# Altium footprint library lib.PcbLib: 36 footprints (part 1 of 3)
Each footprint in its own frame and in the unit in brackets; x right, y up, seen from the top. Pads: shape width x height; smd on the part's side, far side on the other; paste and mask are expansions set on the pad; w line width, h text height; cw(c..) or ccw(c..) is an arc to the next point about the centre after c.
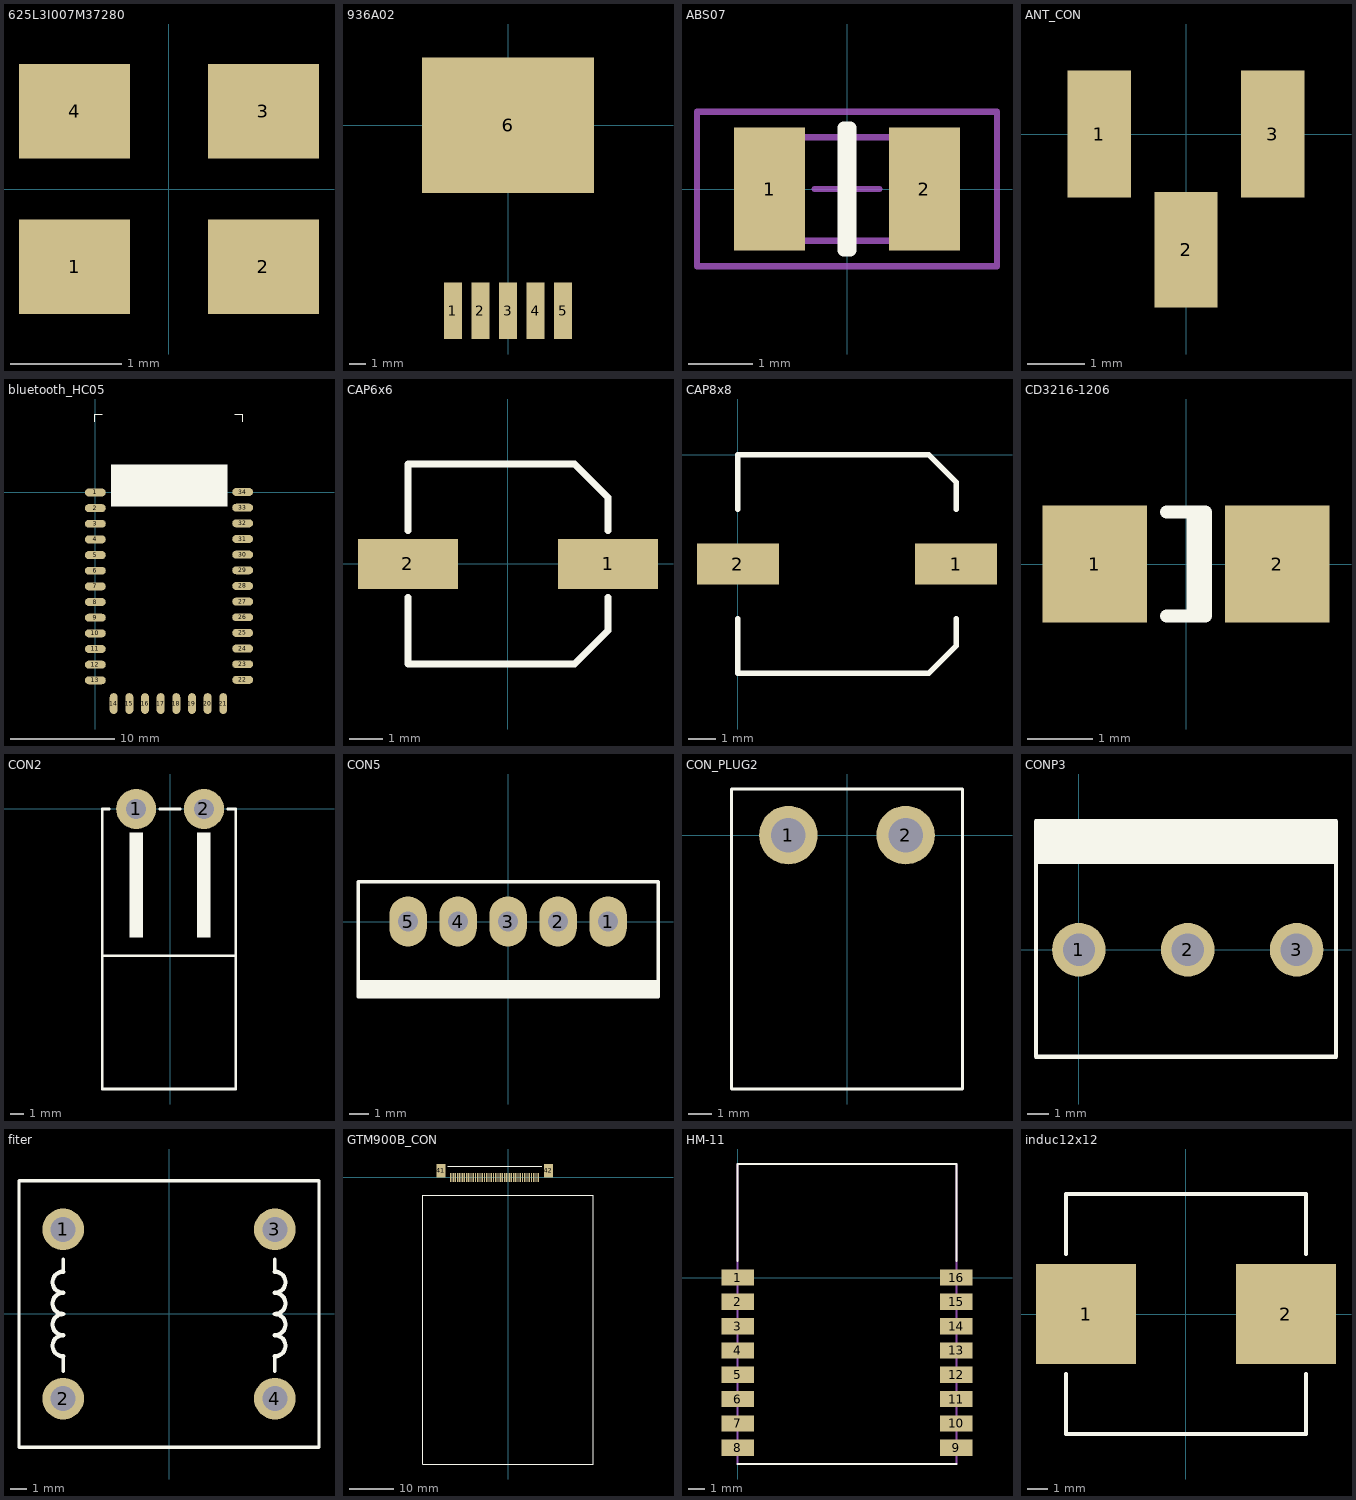
[diagram p0: the footprints below, top view; thin cyan lines are the x and y axes]

## 625L3I007M37280 [mm] "Crystal, SM; 4 Leads; Body 1 x 2.5 x 2 mm (LxWxH)"
height 2.5
pads (4):
  rect 1x0.85 smd: 1(-0.85,-0.7) 2(0.85,-0.7) 3(0.85,0.7) 4(-0.85,0.7)

## 936A02 [mm]
pads (6):
  rect 1.1x3.5 smd: 1(-3.404,-11.482) 2(-1.702,-11.482) 3(0,-11.482) 4(1.702,-11.482) 5(3.404,-11.482)
  rect 10.66x8.38 smd: 6(0,0)

## ABS07 [mm] "MELF Resistor, 2-Leads, Body 3.2x1.5mm, IPC Medium Density"
height 1.6
pads (2):
  rect 1.1x1.9 smd: 1(-1.2,0) 2(1.2,0)
Top Overlay:
  lines w0.2: -0.05,-0.95 0.05,-0.95 0.05,0.95 -0.05,0.95 -0.05,-0.95
Mechanical 13:
  lines w0.1: -1.65,-0.8 -1.65,0.8 1.65,0.8 1.65,-0.8 -1.65,-0.8
Mechanical 15:
  lines w0.1: -0.5,0 0.5,0 ; 0,-0.5 0,0.5 ; -2.325,-1.2 -2.325,1.2 2.325,1.2 2.325,-1.2 -2.325,-1.2
3D body: height 1.6, standoff 0, extent -1.65,-0.8 1.65,0.8

## ANT_CON [mm]
pads (3):
  rect 1.1x2.2 smd: 1(-1.5,0) 3(1.5,0)
  rect 1.1x2 smd: 2(0,-2)

## bluetooth_HC05 [mm]
pads (34):
  oval 2x0.76 smd: 1(0.01,0) 2(0.01,-1.5) 3(0.01,-3) 4(0.01,-4.5) 5(0.01,-6) 6(0.01,-7.5) 7(0.01,-9) 8(0.01,-10.5) 9(0.01,-12) 10(0.01,-13.5) 11(0.01,-15) 12(0.01,-16.5) 13(0.01,-18) 22(14.13,-17.96) 23(14.13,-16.46) 24(14.13,-14.96) 25(14.13,-13.46) 26(14.13,-11.96) 27(14.13,-10.46) 28(14.13,-8.96) 29(14.13,-7.46) 30(14.13,-5.96) 31(14.13,-4.46) 32(14.13,-2.96) 33(14.13,-1.46) 34(14.13,0.04)
  oval 0.76x2 smd: 14(1.77,-20.23) 15(3.27,-20.23) 16(4.77,-20.23) 17(6.27,-20.23) 18(7.77,-20.23) 19(9.27,-20.23) 20(10.77,-20.23) 21(12.27,-20.23)
Top Overlay:
  region: 12.689,-1.33 12.689,2.67 1.489,2.67 1.489,-1.33
  lines w0.1: -0.06,6.77 -0.06,7.52 0.69,7.52 ; 13.39,7.52 14.14,7.52 14.14,6.77

## CAP6x6 [mm]
pads (2):
  rect 3x1.5 smd: 1(3,0) 2(-3,0)
Top Overlay:
  lines w0.2: -3,-1 -3,-3 2,-3 3,-2 3,-1 ; -3,1 -3,3 2,3 3,2 3,1

## CAP8x8 [mm]
pads (2):
  rect 3x1.5 smd: 1(8,-4) 2(0,-4)
Top Overlay:
  lines w0.2: 0,-6 0,-8 7,-8 8,-7 8,-6 ; 0,-2 0,0 7,0 8,-1 8,-2

## CD3216-1206 [mm] "Chip Diode; Body 3.2 x 1.6 mm (LxW typ)"
height 1.35
pads (2):
  rect 1.6x1.8 smd: 1(-1.4,0) 2(1.4,0)
Top Overlay:
  lines w0.2: -0.3,-0.8 0.3,-0.8 0.3,0.8 -0.3,0.8 ; 0.11,-0.8 0.11,0.8

## CON2 [mm]
pads (2):
  round 3 hole 1.5: 1(-2.54,0) 2(2.54,0)
Top Overlay:
  rectangle: -3.048,-9.652 -2.032,-1.778
  rectangle: 2.032,-9.652 3.048,-1.778
  lines w0.2: -5.08,-11 4.92,-11 ; -4.572,0 -5.08,0 -5.08,-21 4.92,-21 4.92,0 4.318,0 ; -0.762,0 0.762,0

## CON5 [mm]
pads (5):
  oval 1.905x2.54 hole 1: 1(5.08,0) 2(2.54,0) 3(0,0) 4(-2.54,0) 5(-5.08,0)
Top Overlay:
  rectangle: -7.62,-3.81 7.62,-3.048
  lines w0.178: -7.62,-3.048 7.62,-3.048 ; -7.62,-3.81 -7.62,2.032 7.62,2.032 7.62,-3.81 -7.62,-3.81

## CON_PLUG2 [mm]
pads (2):
  round 2.54 hole 1.5: 1(-2.54,0) 2(2.54,0)
Top Overlay:
  lines w0.127: -5,-11 5,-11 5,2 -5,2 -5,-11

## CONP3 [mm]
pads (3):
  round 2.5 hole 1.5: 1(0,0) 2(5.08,0) 3(10.16,0)
Top Overlay:
  rectangle: -2,4 12,6
  lines w0.2: -2,-5 12,-5 12,0 12,6 -2,6 -2,0 -2,-5

## fiter [mm]
pads (4):
  round 2.5 hole 1.5: 1(-6.35,5.08) 2(-6.35,-5.08) 3(6.35,5.08) 4(6.35,-5.08)
Top Overlay:
  lines w0.2: -6.35,-3.429 -6.35,-2.54 ; -6.35,2.54 -6.35,3.302 ; 6.35,-3.429 6.35,-2.54 ; 6.35,2.54 6.35,3.302 ; -9,-8 9,-8 9,8 -9,8 -9,-8
  lines w0.254: -6.35,-2.54 cw(c-6.35,-1.905) -6.35,-1.27 cw(c-6.35,-0.635) -6.35,0 cw(c-6.35,0.635) -6.35,1.27 cw(c-6.35,1.905) -6.35,2.54 ; 6.35,-2.54 ccw(c6.35,-1.905) 6.35,-1.27 ccw(c6.35,-0.635) 6.35,0 ccw(c6.35,0.635) 6.35,1.27 ccw(c6.35,1.905) 6.35,2.54

## GTM900B_CON [mm]
pads (42):
  rect 0.3x2 smd: 1(-12.75,0) 2(-12.25,0) 3(-11.75,0) 4(-11.25,0) 5(-10.75,0) 6(-10.25,0) 7(-9.75,0) 8(-9.25,0) 9(-8.75,0) 10(-8.25,0) 11(-7.75,0) 12(-7.25,0) 13(-6.75,0) 14(-6.25,0) 15(-5.75,0) 16(-5.25,0) 17(-4.75,0) 18(-4.25,0) 19(-3.75,0) 20(-3.25,0) 21(-2.75,0) 22(-2.25,0) 23(-1.75,0) 24(-1.25,0) 25(-0.75,0) 26(-0.25,0) 27(0.25,0) 28(0.75,0) 29(1.25,0) 30(1.75,0) 31(2.25,0) 32(2.75,0) 33(3.25,0) 34(3.75,0) 35(4.25,0) 36(4.75,0) 37(5.25,0) 38(5.75,0) 39(6.25,0) 40(6.75,0)
  rect 2x3 smd: 41(-15,1.5) 42(9,1.5)
Top Overlay:
  lines w0.2: -13.5,2.5 7.5,2.5 ; -19,-64 19,-64 19,-4 -19,-4 -19,-64

## HM-11 [mm]
pads (16):
  rect 2x1 smd mask+0.001: 1(0,0) 2(0,-1.5) 3(0,-3) 4(0,-4.5) 5(0,-6) 6(0,-7.5) 7(0,-9) 8(0,-10.5) 9(13.5,-10.5) 10(13.5,-9) 11(13.5,-7.5) 12(13.5,-6) 13(13.5,-4.5) 14(13.5,-3) 15(13.5,-1.5) 16(13.5,0)
Top Overlay:
  lines w0.1: 0,-11.5 13.5,-11.5 ; 0,1 0,7 13.5,7 13.5,1
Mechanical 15:
  lines w0.1: 0,-11.5 13.5,-11.5 13.5,7 0,7 0,-11.5

## induc12x12 [mm]
pads (2):
  rect 5x5 smd: 1(-5,0) 2(5,0)
Top Overlay:
  lines w0.2: -6,-3 -6,-6 6,-6 6,-3 ; -6,3 -6,6 6,6 6,3